# Altium schematic symbol library 3.1   - 电阻-电容-电感.SchLib: 32 symbols
Pins are listed as number, name and electrical type; pins without a type are passive.

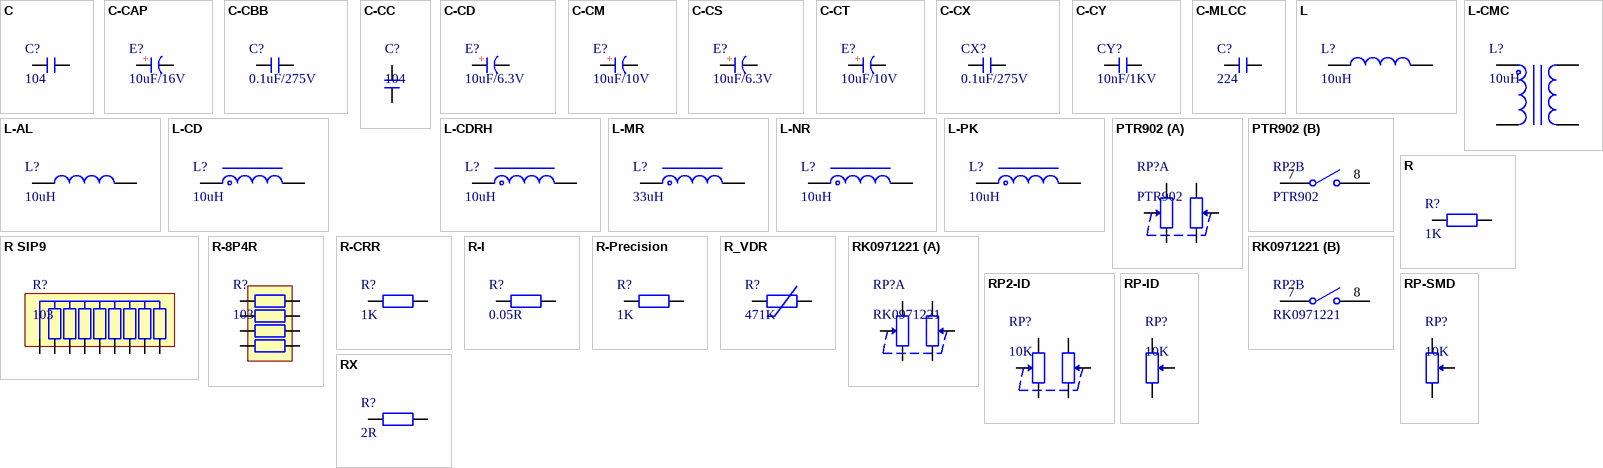
[diagram p0: symbols C to RX]

## C
designator C?, comment 104
无极性贴片电容; 版权归属: 源创客; BOM名称: 无极性贴片电容; 学习资源: www.ooocke.com
footprint C 0201_L (Footprint not found)
footprint C 0402_L (无极性贴片电容)
footprint C 0603_L (无极性贴片电容)
footprint C 0805_L (无极性贴片电容)
footprint C 1206_L (无极性贴片电容)
footprint C 1210_L (无极性贴片电容)
footprint C 1808_L (无极性贴片电容)
footprint C 1812_L (无极性贴片电容)
footprint C 1825_L (无极性贴片电容)
footprint C 2225_L (无极性贴片电容)
footprint C 0201_M (无极性贴片电容)
footprint C 0402_M (无极性贴片电容)
footprint C 0603_M (无极性贴片电容)
footprint C 0805_M (无极性贴片电容)
footprint C 1206_M (无极性贴片电容)
footprint C 1210_M (无极性贴片电容)
footprint C 1808_M (无极性贴片电容)
footprint C 1812_M (无极性贴片电容)
footprint C 1825_M (无极性贴片电容)
footprint C 2225_M (无极性贴片电容)
footprint Model Name (Footprint not found)
pins: 1, 2

## C-CAP
designator E?, comment 10uF/16V
直插电解电容; 版权归属: 源创客; BOM名称: 直插电解电容; 学习资源: www.ooocke.com
footprint CAP 1.5*4*8 (脚距1.5mm直径4mm高度8mm)
footprint CAP 1.5*4*8 - BK (脚距1.5mm直径4mm高度8mm)
footprint CAP 1.5*4*8 - GD (脚距1.5mm直径4mm高度8mm)
footprint CAP 1.5*4*8-H (脚距1.5mm直径4mm高度8mm)
footprint CAP 1.5*4*8-H - BK (脚距1.5mm直径4mm高度8mm)
footprint CAP 1.5*4*8-H - GD (脚距1.5mm直径4mm高度8mm)
footprint CAP 2.0*5*11 (脚距2mm直径5mm高度11mm)
footprint CAP 2.0*5*11 - BK (脚距2mm直径5mm高度11mm)
footprint CAP 2.0*5*11 - GD (脚距2mm直径5mm高度11mm)
footprint CAP 2.0*5*11-H (脚距2mm直径5mm高度11mm)
footprint CAP 2.0*5*11-H - BK (脚距2mm直径5mm高度11mm)
footprint CAP 2.0*5*11-H - GD (脚距2mm直径5mm高度11mm)
footprint CAP 2.5*5*11 (脚距2.5mm直径5mm高度11mm)
footprint CAP 2.5*5*11 - BK (脚距2.5mm直径5mm高度11mm)
footprint CAP 2.5*5*11 - GD (脚距2.5mm直径5mm高度11mm)
footprint CAP 2.5*5*11-H (脚距2.5mm直径5mm高度11mm)
footprint CAP 2.5*5*11-H - BK (脚距2.5mm直径5mm高度11mm)
footprint CAP 2.5*5*11-H - GD (脚距2.5mm直径5mm高度11mm)
footprint CAP 2.5*6.3*7 (脚距2.5mm直径6.3mm高度7mm)
footprint CAP 2.5*6.3*7 - BK (脚距2.5mm直径6.3mm高度7mm)
footprint CAP 2.5*6.3*7 - GD (脚距2.5mm直径6.3mm高度7mm)
footprint CAP 2.5*6.3*7-H (脚距2.5mm直径6.3mm高度7mm)
footprint CAP 2.5*6.3*7-H - BK (脚距2.5mm直径6.3mm高度7mm)
footprint CAP 2.5*6.3*7-H - GD (脚距2.5mm直径6.3mm高度7mm)
footprint CAP 2.5*6.3*11.2 (脚距2.5mm直径6.3mm高度11.2mm)
footprint CAP 2.5*6.3*11.2 - BK (脚距2.5mm直径6.3mm高度11.2mm)
footprint CAP 2.5*6.3*11.2 - GD (脚距2.5mm直径6.3mm高度11.2mm)
footprint CAP 2.5*6.3*11.2-H (脚距2.5mm直径6.3mm高度11.2mm)
footprint CAP 2.5*6.3*11.2-H - BK (脚距2.5mm直径6.3mm高度11.2mm)
footprint CAP 2.5*6.3*11.2-H - GD (脚距2.5mm直径6.3mm高度11.2mm)
footprint CAP 3.5*8*11.5 (脚距3.5mm直径8mm高度11.5mm)
footprint CAP 3.5*8*11.5 - BK (脚距3.5mm直径8mm高度11.5mm)
footprint CAP 3.5*8*11.5 - GD (脚距3.5mm直径8mm高度11.5mm)
footprint CAP 3.5*8*11.5-H (脚距3.5mm直径8mm高度11.5mm)
footprint CAP 3.5*8*11.5-H - BK (脚距3.5mm直径8mm高度11.5mm)
footprint CAP 3.5*8*11.5-H - GD (脚距3.5mm直径8mm高度11.5mm)
footprint CAP 5.0*10*12.5 (脚距5mm直径10mm高度12.5mm)
footprint CAP 5.0*10*12.5 - BK (脚距5mm直径10mm高度12.5mm)
footprint CAP 5.0*10*12.5 - GD (脚距5mm直径10mm高度12.5mm)
footprint CAP 5.0*10*12.5-H (脚距5mm直径10mm高度12.5mm)
footprint CAP 5.0*10*12.5-H - BK (脚距5mm直径10mm高度12.5mm)
footprint CAP 5.0*10*12.5-H - GD (脚距5mm直径10mm高度12.5mm)
footprint CAP 5.0*10*16 (脚距5mm直径10mm高度16mm)
footprint CAP 5.0*10*16 - BK (脚距5mm直径10mm高度16mm)
footprint CAP 5.0*10*16 - GD (脚距5mm直径10mm高度16mm)
footprint CAP 5.0*10*16-H (脚距5mm直径10mm高度16mm)
footprint CAP 5.0*10*16-H - BK (脚距5mm直径10mm高度16mm)
footprint CAP 5.0*10*16-H - GD (脚距5mm直径10mm高度16mm)
footprint CAP 5.0*10*20 (脚距5mm直径10mm高度20mm)
footprint CAP 5.0*10*20 - BK (脚距5mm直径10mm高度20mm)
footprint CAP 5.0*10*20 - GD (脚距5mm直径10mm高度20mm)
footprint CAP 5.0*10*20-H (脚距5mm直径10mm高度20mm)
footprint CAP 5.0*10*20-H - BK (脚距5mm直径10mm高度20mm)
footprint CAP 5.0*10*20-H - GD (脚距5mm直径10mm高度20mm)
footprint CAP 5.0*12.5*20 (脚距5mm直径12.5mm高度20mm)
footprint CAP 5.0*12.5*20 - BK (脚距5mm直径12.5mm高度20mm)
footprint CAP 5.0*12.5*20 - GD (脚距5mm直径12.5mm高度20mm)
footprint CAP 5.0*12.5*20-H (脚距5mm直径12.5mm高度20mm)
footprint CAP 5.0*12.5*20-H - BK (脚距5mm直径12.5mm高度20mm)
footprint CAP 5.0*12.5*20-H - GD (脚距5mm直径12.5mm高度20mm)
footprint CAP 5.0*12.5*25 (脚距5mm直径12.5mm高度25mm)
footprint CAP 5.0*12.5*25 - BK (脚距5mm直径12.5mm高度25mm)
footprint CAP 5.0*12.5*25 - GD (脚距5mm直径12.5mm高度25mm)
footprint CAP 5.0*12.5*25-H (脚距5mm直径12.5mm高度25mm)
footprint CAP 5.0*12.5*25-H - BK (脚距5mm直径12.5mm高度25mm)
footprint CAP 5.0*12.5*25-H - GD (脚距5mm直径12.5mm高度25mm)
footprint CAP 7.5*16*25 (脚距7.5mm直径16mm高度25mm)
footprint CAP 7.5*16*25 - BK (脚距7.5mm直径16mm高度25mm)
footprint CAP 7.5*16*25 - GD (脚距7.5mm直径16mm高度25mm)
footprint CAP 7.5*16*25-H (脚距7.5mm直径16mm高度25mm)
footprint CAP 7.5*16*25-H - BK (脚距7.5mm直径16mm高度25mm)
footprint CAP 7.5*16*25-H - GD (脚距7.5mm直径16mm高度25mm)
footprint CAP 7.5*16*31.5 (脚距7.5mm直径16mm高度31.5mm)
footprint CAP 7.5*16*31.5 - BK (脚距7.5mm直径16mm高度31.5mm)
footprint CAP 7.5*16*31.5 - GD (脚距7.5mm直径16mm高度31.5mm)
footprint CAP 7.5*16*31.5-H (脚距7.5mm直径16mm高度31.5mm)
footprint CAP 7.5*16*31.5-H - BK (脚距7.5mm直径16mm高度31.5mm)
footprint CAP 7.5*16*31.5-H - GD (脚距7.5mm直径16mm高度31.5mm)
footprint CAP 7.5*18*35.5 (脚距7.5mm直径18mm高度35.5mm)
footprint CAP 7.5*18*35.5 - BK (脚距7.5mm直径18mm高度35.5mm)
footprint CAP 7.5*18*35.5 - GD (脚距7.5mm直径18mm高度35.5mm)
footprint CAP 7.5*18*35.5-H (脚距7.5mm直径18mm高度35.5mm)
footprint CAP 7.5*18*35.5-H - BK (脚距7.5mm直径18mm高度35.5mm)
footprint CAP 7.5*18*35.5-H - GD (脚距7.5mm直径18mm高度35.5mm)
footprint CAP 10*22*31.5 (脚距10mm直径22mm高度31.5mm)
footprint CAP 10*22*31.5 - BK (脚距10mm直径22mm高度31.5mm)
footprint CAP 10*22*31.5 - GD (脚距10mm直径22mm高度31.5mm)
footprint CAP 10*22*40 (脚距10mm直径22mm高度40mm)
footprint CAP 10*22*40 - BK (脚距10mm直径22mm高度40mm)
footprint CAP 10*22*40 - GD (脚距10mm直径22mm高度40mm)
pins: 1 A, 2 K
text: +

## C-CBB
designator C?, comment 0.1uF/275V
CBB电容; 版权归属: 源创客; BOM名称: CBB电容; 学习资源: www.ooocke.com
footprint CBB 10*12*8 (脚距10mm高12mm厚8mm)
footprint CBB 15*18*11 (脚距15mm高18mm厚11mm)
footprint CBB 20*23*17 (脚距20mm高23mm厚17mm)
footprint CBB 5*6.3*3 (脚距5mm高6.3mm厚3mm)
footprint CBB-CL71 (7.2mm*2.3mm*6.5mm(长*宽*高）)
pins: 1, 2

## C-CC
designator C?, comment 104
直插瓷片电容; 版权归属: 源创客; BOM名称: 直插瓷片电容; 学习资源: www.ooocke.com
footprint CC 1.8*3.6 (脚距1.8mm直径3.6mm)
footprint CC 2.2*5 (脚距2.2mm直径5mm)
pins: 1, 2

## C-CD
designator E?, comment 10uF/6.3V
贴片钽电容; 版权归属: 源创客; BOM名称: 贴片钽电容; 学习资源: www.ooocke.com
footprint CD A(3216) (长3.2mm，宽1.6mm，厚1.6mm)
footprint CD B(3528) (长3.5mm，宽2.8mm，厚1.9mm)
footprint CD C(6032) (长6.0mm，宽3.2mm，厚2.5mm)
footprint CD D(7343) (长7.3mm，宽4.3mm，厚2.8mm)
footprint CD E(7343H) (长7.3mm，宽4.3mm，厚4.0mm)
footprint CD S(2012) (长2.0mm，宽1.25mm，厚1.2mm)
pins: 1 A, 2 K
text: +

## C-CM
designator E?, comment 10uF/10V
贴片电解电容; 版权归属: 源创客; BOM名称: 贴片电解电容; 学习资源: www.ooocke.com
footprint CM A(3*5.4) (贴片电解电容，直径3mm，高5.4mm)
footprint CM B(4*5.4) (贴片电解电容，直径4mm，高5.4mm)
footprint CM C(5*5.4) (贴片电解电容，直径5mm，高5.4mm)
footprint CM D(6.3*5.4) (贴片电解电容，直径6.3mm，高5.4mm)
footprint CM D(6.3*7.7) (贴片电解电容，直径6.3mm，高7.7mm)
footprint CM E(8*6.2) (贴片电解电容，直径8mm，高6.2mm)
footprint CM E(8*10.2) (贴片电解电容，直径8mm，高10.2mm)
footprint CM F(10*10.2) (贴片电解电容，直径10mm，高10.2mm)
footprint CM G(12.5*13.5) (贴片电解电容，直径12.5mm，高13.5mm)
footprint CM G(12.5*16) (贴片电解电容，直径12.5mm，高16mm)
footprint CM H(16*16.5) (贴片电解电容，直径16mm，高16.5mm)
pins: 1 A, 2 K
text: +

## C-CS
designator E?, comment 10uF/6.3V
直插固态电容; 版权归属: 源创客; BOM名称: 直插固态电容; 学习资源: www.ooocke.com
footprint CS 2.0*5*8 - C (脚距2mm , 直径5mm , 高8mm)
footprint CS 2.0*5*8 - R (脚距2mm , 直径5mm , 高8mm)
footprint CS 2.0*5*8 - V (脚距2mm , 直径5mm , 高8mm)
footprint CS 2.5*6.3*7 - C (脚距2.5mm , 直径6.3mm , 高7mm)
footprint CS 2.5*6.3*7 - R (脚距2.5mm , 直径6.3mm , 高7mm)
footprint CS 2.5*6.3*7 - V (脚距2.5mm , 直径6.3mm , 高7mm)
footprint CS 2.5*6.3*11 - C (脚距2.5mm , 直径6.3mm , 高11mm)
footprint CS 2.5*6.3*11 - R (脚距2.5mm , 直径6.3mm , 高11mm)
footprint CS 2.5*6.3*11 - V (脚距2.5mm , 直径6.3mm , 高11mm)
footprint CS 3.5*8*8 - C (脚距3.5mm , 直径8mm , 高8mm)
footprint CS 3.5*8*8 - R (脚距3.5mm , 直径8mm , 高8mm)
footprint CS 3.5*8*8 - V (脚距3.5mm , 直径8mm , 高8mm)
footprint CS 3.5*8*11.5 - C (脚距3.5mm , 直径8mm , 高11.5mm)
footprint CS 3.5*8*11.5 - R (脚距3.5mm , 直径8mm , 高11.5mm)
footprint CS 3.5*8*11.5 - V (脚距3.5mm , 直径8mm , 高11.5mm)
footprint CS 5.0*10*13 - C (脚距5mm , 直径10mm , 高13mm)
footprint CS 5.0*10*13 - R (脚距5mm , 直径10mm , 高13mm)
footprint CS 5.0*10*13 - V (脚距5mm , 直径10mm , 高13mm)
pins: 1 A, 2 K
text: +

## C-CT
designator E?, comment 10uF/10V
贴片固态电容; 版权归属: 源创客; BOM名称: 贴片固态电容; 学习资源: www.ooocke.com
footprint CT 5*6 - C (直径5mm，高6mm)
footprint CT 5*6 - R (直径5mm，高6mm)
footprint CT 5*6 - V (直径5mm，高6mm)
footprint CT 6*4 - C (直径6mm，高4mm)
footprint CT 6*4 - R (直径6mm，高4mm)
footprint CT 6*4 - V (直径6mm，高4mm)
footprint CT 6*6 - C (直径6mm，高6mm)
footprint CT 6*6 - R (直径6mm，高6mm)
footprint CT 6*6 - V (直径6mm，高6mm)
footprint CT 8*7 - C (直径8mm，高7mm)
footprint CT 8*7 - R (直径8mm，高7mm)
footprint CT 8*7 - V (直径8mm，高7mm)
footprint CT 8*12 - C (直径8mm，高12mm)
footprint CT 8*12 - R (直径8mm，高12mm)
footprint CT 8*12 - V (直径8mm，高12mm)
footprint CT 10*6 - C (直径10mm，高6mm)
footprint CT 10*6 - R (直径10mm，高6mm)
footprint CT 10*6 - V (直径10mm，高6mm)
footprint CT 10*8 - C (直径10mm，高8mm)
footprint CT 10*8 - R (直径10mm，高8mm)
footprint CT 10*8 - V (直径10mm，高8mm)
footprint CT 10*13 - C (直径10mm，高13mm)
footprint CT 10*13 - R (直径10mm，高13mm)
footprint CT 10*13 - V (直径10mm，高13mm)
pins: 1 A, 2 K
text: +

## C-CX
designator CX?, comment 0.1uF/275V
X电容; 版权归属: 源创客; BOM名称: X电容; 学习资源: www.ooocke.com
footprint CX 10*13*11 (脚距10mm高13mm厚11mm)
footprint CX 15*18*11 (脚距15mm高18mm厚11mm)
pins: 1, 2

## C-CY
designator CY?, comment 10nF/1KV
高压陶瓷电容，Y电容; 版权归属: 源创客; BOM名称: 高压陶瓷电容，Y电容; 学习资源: www.ooocke.com
footprint CY 7.5*8*4 (脚距7.5mm，直径8mm，厚4mm)
footprint CY 7.5*10*4 (脚距7.5mm，直径10mm，厚4mm)
footprint CY 7.5*12*5 (脚距7.5mm，直径12mm，厚5mm)
footprint CY 10*14*5 (脚距10mm，直径14mm，厚5mm)
footprint CY 10*16*6 (脚距10mm，直径16mm，厚6mm)
footprint CY 10*18*6 (脚距10mm，直径18mm，厚6mm)
footprint CY 5*7*2.5 (脚距5mm，直径7mm，厚2.5mm)
pins: 1, 2

## C-MLCC
designator C?, comment 224
独石电容; 版权归属: 源创客; BOM名称: 独石电容; 学习资源: www.ooocke.com
footprint MLCC5.08-A (独石电容，脚距5.08mm)
pins: 1, 2

## L
designator L?, comment 10uH
小功率贴片电感; 版权归属: 源创客; BOM名称: 小功率贴片电感; 学习资源: www.ooocke.com
footprint L 0402 (小功率贴片电感)
footprint L 0603 (小功率贴片电感)
footprint L 0805 (小功率贴片电感)
footprint L 1206 (小功率贴片电感)
footprint L 1210 (小功率贴片电感)
footprint L 1806 (小功率贴片电感)
footprint L 1812 (小功率贴片电感)
pins: 1, 2

## L-AL
designator L?, comment 10uH
色环电感; 版权归属: 源创客; BOM名称: 色环电感; 学习资源: www.ooocke.com
footprint AL0204 (9*2*4mm（脚距，直径，长度）)
footprint AL0204_V (3*2*4mm（脚距，直径，长度）)
footprint AL0307 (11*3*7mm（脚距，直径，长度）)
footprint AL0307_V (3.5*3*7mm（脚距，直径，长度）)
footprint AL0410 (15*4*10.5mm（脚距，直径，长度）)
footprint AL0410_V (5*4*10.5mm（脚距，直径，长度）)
footprint AL0510 (16*5*10.5mm（脚距，直径，长度）)
footprint AL0510_V (6*5*10.5mm（脚距，直径，长度）)
pins: 1, 2

## L-CD
designator L?, comment 10uH
贴片功率电感; BOM名称: 功率电感; 版权归属: 源创客; 学习资源: www.ooocke.com
footprint CD31 (3.5*3*1mm（长宽高）)
footprint CD32 (3.5*3*2mm（长宽高）)
footprint CD42 (4.5*4*2mm（长宽高）)
footprint CD43 (4.5*4*3.2mm（长宽高）)
footprint CD52 (5.8*5.2*3mm（长宽高）)
footprint CD53 (5.8*5.2*3.5mm（长宽高）)
footprint CD54 (5.8*5.2*4.5mm（长宽高）)
footprint CD73 (7.8*7*3.5mm（长宽高）)
footprint CD75 (7.8*7*5mm（长宽高）)
footprint CD104 (10*9*4mm（长宽高）)
footprint CD105 (10*9*5.4mm（长宽高）)
footprint CD106 (10*9*6.5mm（长宽高）)
pins: 1, 2

## L-CDRH
designator L?, comment 10uH
功率屏蔽电感; 版权归属: 源创客; BOM名称: 功率屏蔽电感; 学习资源: www.ooocke.com
footprint CDRH73 (7.3*7.3*3.4mm（长宽高）)
footprint CDRH74 (7.3*7.3*4.5mm（长宽高）)
footprint CDRH124 (12*12*4.5mm（长宽高）)
footprint CDRH125 (12*12*5mm（长宽高）)
footprint CDRH127 (12*12*8mm（长宽高）)
footprint CDRH129 (12*12*9.5mm（长宽高）)
pins: 1, 2

## L-CMC
designator L?, comment 10uH
共模电感; 版权归属: 源创客; BOM名称: 共模电感; 学习资源: www.ooocke.com
footprint UU9.8 (17*12*17mm(长宽高）)
footprint UU10.5 (18*16*20mm(长宽高）)
footprint UU16 (22*17.5*23mm(长宽高）)
footprint T12x6x4 (直径：13.2mm，厚：7.2mm，脚距5*6.6mm)
pins: 1, 2, 3, 4

## L-MR
designator L?, comment 33uH
功率磁环电感; 版权归属: 源创客; BOM名称: 功率磁环电感; 学习资源: www.ooocke.com
footprint LMR135 (磁环电感，外径13mm，厚度5mm)
pins: 1, 2

## L-NR
designator L?, comment 10uH
NR磁胶电感; 版权归属: 源创客; BOM名称: NR磁胶电感; 学习资源: www.ooocke.com
footprint NR2520 (2.5mm*2.0mm*1.0mm(长*宽*高）)
footprint NR3010 (3.0mm*3.0mm*1.0mm(长*宽*高）)
footprint NR3012 (3.0mm*3.0mm*1.2mm(长*宽*高）)
footprint NR3015 (3.0mm*3.0mm*1.5mm(长*宽*高）)
footprint NR4010 (4.0mm*4.0mm*1.0mm(长*宽*高）)
footprint NR4018 (4.0mm*4.0mm*1.8mm(长*宽*高）)
footprint NR4020 (4.0mm*4.0mm*2.0mm(长*宽*高）)
footprint NR4026 (4.0mm*4.0mm*2.6mm(长*宽*高）)
footprint NR4030 (4.0mm*4.0mm*3.0mm(长*宽*高）)
footprint NR5012 (5.0mm*5.0mm*1.2mm(长*宽*高）)
footprint NR5020 (5.0mm*5.0mm*2.0mm(长*宽*高）)
footprint NR5040 (5.0mm*5.0mm*4.0mm(长*宽*高）)
footprint NR6020 (6.0mm*6.0mm*2.0mm(长*宽*高）)
footprint NR6028 (6.0mm*6.0mm*2.8mm(长*宽*高）)
footprint NR6045 (6.0mm*6.0mm*4.5mm(长*宽*高）)
footprint NR8040 (8.0mm*8.0mm*4.0mm(长*宽*高）)
pins: 1, 2

## L-PK
designator L?, comment 10uH
工字电感; 版权归属: 源创客; BOM名称: 工字电感; 学习资源: www.ooocke.com
footprint PK0406 (2*5*8mm(脚距，直径，高）)
footprint PK0608 (2.5*7*10mm(脚距，直径，高）)
footprint PK0810 (5*9*12mm(脚距，直径，高）)
footprint PK0912 (6*10*14mm(脚距，直径，高）)
footprint PK1012 (6*11*14mm(脚距，直径，高）)
footprint PK1415 (7.5*15*17mm(脚距，直径，高）)
footprint PK1618 (12.5*17*20mm(脚距，直径，高）)
footprint PK1818 (15*19*20mm(脚距，直径，高）)
pins: 1, 2

## PTR902
designator RP?
插件双联电位器带开关; 版权归属: 源创客; BOM名称: 插件双联电位器带开关; 学习资源: www.ooocke.com
footprint PTR902-L15 (双联电位器带开关（柄长15mm）)
part A pins: 1, 2, 3, 4, 5, 6
part B pins: 7, 8

## R
designator R?, comment 1K
贴片电阻; 版权归属: 源创客; BOM名称: 贴片电阻; 学习资源: www.ooocke.com
footprint R 0201_L (1/20W贴片电阻)
footprint R 0402_L (1/16W贴片电阻)
footprint R 0603_L (1/10W贴片电阻)
footprint R 0805_L (1/8W贴片电阻)
footprint R 1206_L (1/4W贴片电阻)
footprint R 1210_L (1/3W贴片电阻)
footprint R 1812_L (1/2W贴片电阻)
footprint R 2010_L (3/4W贴片电阻)
footprint R 2512_L (1W贴片电阻)
footprint R 0201_M (1/20W贴片电阻)
footprint R 0402_M (1/16W贴片电阻)
footprint R 0603_M (1/10W贴片电阻)
footprint R 0805_M (1/8W贴片电阻)
footprint R 1206_M (1/4W贴片电阻)
footprint R 1210_M (1/3W贴片电阻)
footprint R 1812_M (1/2W贴片电阻)
footprint R 2010_M (3/4W贴片电阻)
footprint R 2512_M (1W贴片电阻)
pins: 1, 2

## R SIP9
designator R?, comment 103
单列直插排阻; 版权归属: 源创客; BOM名称: 单列直插排阻; 学习资源: www.ooocke.com
footprint R SIP9-2.54 (22.6mm*5mm*2.2mm(长*宽*厚))
pins: 1, 2, 3, 4, 5, 6, 7, 8, 9

## R-8P4R
designator R?, comment 103
贴片网络排阻; 版权归属: 源创客; BOM名称: 贴片网络排阻; 学习资源: www.ooocke.com
footprint RCA-8P4R-0402 (2mm*1mm*0.45mm(长*宽*厚))
footprint RCA-8P4R-0603 (3.2mm*1.6mm*0.6mm(长*宽*厚))
pins: 1, 2, 3, 4, 5, 6, 7, 8

## R-CRR
designator R?, comment 1K
直插色环电阻; BOM名称: 色环电阻; 版权归属: 源创客; 学习资源: www.ooocke.com
footprint RS 1/2W (直插色环电阻，脚距12.5mm，直径3mm)
footprint RS 1/2W-V4 (直插色环电阻，脚距4mm，直径3mm)
footprint RS 1/4W (直插色环电阻，脚距9mm，直径2.3mm)
footprint RS 1/4W-V3 (直插色环电阻，脚距3mm，直径2.3mm)
footprint RS 1/8W (直插色环电阻，脚距6mm，直径1.5mm)
footprint RS 1/8W-V2 (直插色环电阻，脚距2mm，直径1.5mm)
footprint RS 1W (直插色环电阻，脚距15mm，直径4mm)
footprint RS 1W-F5 (直插色环电阻，脚距15mm，直径4mm，浮空5mm)
footprint RS 1W-V5 (直插色环电阻，脚距5mm，直径4mm)
footprint RS 2W (直插色环电阻，脚距20mm，直径5mm)
footprint RS 2W-F5 (直插色环电阻，脚距20mm，直径5mm，浮空5mm)
footprint RS 2W-V6 (直插色环电阻，脚距6mm，直径5mm)
footprint RS 3W (直插色环电阻，脚距25mm，直径6mm)
footprint RS 3W-F5 (直插色环电阻，脚距25mm，直径6mm，浮空5mm)
footprint RS 3W-V7 (直插色环电阻，脚距7mm，直径6mm)
footprint RS 5W (直插色环电阻，脚距30mm，直径8mm)
footprint RS 5W-F5 (直插色环电阻，脚距30mm，直径8mm，浮空5mm)
footprint RS 5W-V8 (直插色环电阻，脚距8mm，直径8mm)
pins: 1, 2

## R-I
designator R?, comment 0.05R
电流检测电阻; 版权归属: 源创客; BOM名称: 电流检测电阻; 学习资源: www.ooocke.com
footprint RI 1.25W - 0.9mm (电流检测电阻，脚距10mm，高15mm，直径0.9mm)
pins: 1, 2

## R-Precision
designator R?, comment 1K
精密贴片电阻; BOM名称: 精密电阻; 版权归属: 源创客; 学习资源: www.ooocke.com
footprint R 0201-HP_L (1/20W高精度贴片电阻)
footprint R 0402-HP_L (1/16W高精度贴片电阻)
footprint R 0603-HP_L (1/10W高精度贴片电阻)
footprint R 0805-HP_L (1/8W高精度贴片电阻)
footprint R 1206-HP_L (1/4W高精度贴片电阻)
footprint R 1210-HP_L (1/3W高精度贴片电阻)
footprint R 1812-HP_L (1/2W高精度贴片电阻)
footprint R 2010-HP_L (3/4W高精度贴片电阻)
footprint R 2512-HP_L (1W高精度贴片电阻)
footprint R 0201-HP_M (1/20W高精度贴片电阻)
footprint R 0402-HP_M (1/16W高精度贴片电阻)
footprint R 0603-HP_M (1/10W高精度贴片电阻)
footprint R 0805-HP_M (1/8W高精度贴片电阻)
footprint R 1206-HP_M (1/4W高精度贴片电阻)
footprint R 1210-HP_M (1/3W高精度贴片电阻)
footprint R 1812-HP_M (1/2W高精度贴片电阻)
footprint R 2010-HP_M (3/4W高精度贴片电阻)
footprint R 2512-HP_M (1W高精度贴片电阻)
pins: 1, 2

## R_VDR
designator R?, comment 471K
压敏电阻; 版权归属: 源创客; BOM名称: 压敏电阻; 学习资源: www.ooocke.com
footprint VDR 9D-4.5 (压敏电阻9mm*4.5mm(直径*厚度）)
pins: 1, 2

## RK0971221
designator RP?
插件双联音量电位器带开关; 版权归属: 源创客; BOM名称: 插件双联音量电位器带开关; 学习资源: www.ooocke.com
footprint RK0971221-L15 (双联音量电位器带开关（柄长15mm）)
footprint RK0971221-L20 (双联音量电位器带开关（柄长20mm）)
part A pins: 1, 2, 3, 4, 5, 6
part B pins: 7, 8

## RP2-ID
designator RP?, comment 10K
插件双联电位器; BOM名称: 插件电位器; 版权归属: 源创客; 学习资源: www.ooocke.com
footprint WH148-2-G15 (双联电位器，脚距：5mm，柄长：15mm)
footprint WH148-2-G18 (双联电位器，脚距：5mm，柄长：18mm)
footprint WH148-2-G20 (双联电位器，脚距：5mm，柄长：20mm)
footprint WH148-2-G25 (双联电位器，脚距：5mm，柄长：25mm)
footprint WH148C-2-G15 (双联弯脚电位器，脚距：5mm，柄长：15mm)
footprint WH148C-2-G18 (双联弯脚电位器，脚距：5mm，柄长：18mm)
footprint WH148C-2-G20 (双联弯脚电位器，脚距：5mm，柄长：20mm)
footprint WH148C-2-G25 (双联弯脚电位器，脚距：5mm，柄长：25mm)
footprint FADER75-6 (直线电位器，长75mm)
pins: 1, 2, 3, 4, 5, 6

## RP-ID
designator RP?, comment 10K
插件单联电位器; BOM名称: 插件电位器; 版权归属: 源创客; 学习资源: www.ooocke.com
footprint 3296W (Precise Multi-Winding Adjustable Resistor)
footprint 3306W
footprint 3319P
footprint 3362P
footprint 3386W
footprint RM065 (蓝白可调电位器)
footprint WH148-1-G15 (单联电位器，脚距：5mm，柄长：15mm)
footprint WH148-1-G18 (单联电位器，脚距：5mm，柄长：18mm)
footprint WH148-1-G20 (单联电位器，脚距：5mm，柄长：20mm)
footprint WH148-1-G25 (单联电位器，脚距：5mm，柄长：25mm)
footprint 3266W (长：7mm，宽：4.8mm，高：7.5mm)
footprint 3266X (长：7mm，宽：4.8mm，高：7.5mm)
footprint 3266Y (长：7mm，宽：4.8mm，高：7.5mm)
footprint 3266Z (长：7mm，宽：4.8mm，高：7.5mm)
footprint XV09223NPV-20F (长9.85mm，宽11.55mm，高20mm)
footprint XV09223NPV-25F (长9.85mm，宽11.55mm，高25mm)
footprint XV09223NPV-30F (长9.85mm，宽11.55mm，高30mm)
footprint 3006P (19.05mm*4.83mm*6.35mm(长*宽*高）)
pins: 1, 2, 3

## RP-SMD
designator RP?, comment 10K
贴片电位器; 版权归属: 源创客; BOM名称: 贴片电位器; 学习资源: www.ooocke.com
footprint 3303W (Footprint not found)
pins: 1, 2, 3

## RX
designator R?, comment 2R
大功率电阻; 版权归属: 源创客; BOM名称: 大功率电阻; 学习资源: www.ooocke.com
footprint RX10-18*15*5 (18*15*5MM(长*宽*厚))
pins: 1, 2